# Altium footprint library Pinheader_2.54_2x12.PcbLib: 1 footprints
Each footprint in its own frame and in the unit in brackets; x right, y up, seen from the top. Pads: shape width x height; smd on the part's side, far side on the other; paste and mask are expansions set on the pad; w line width, h text height; cw(c..) or ccw(c..) is an arc to the next point about the centre after c.
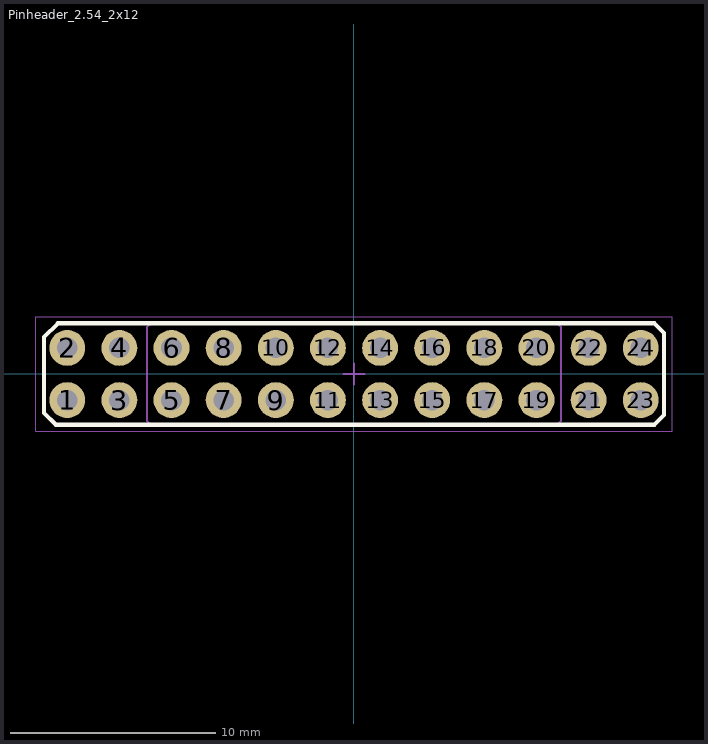
[diagram p0: the footprint, top view; thin cyan lines are the x and y axes]

## Pinheader_2.54_2x12 [mm] "Pinheader, 2.54mm, gerade, 2-reihig"
height 8.7
pads (24):
  round 1.75 hole 1: 1(-13.97,-1.27) 2(-13.97,1.27) 3(-11.43,-1.27) 4(-11.43,1.27) 5(-8.89,-1.27) 6(-8.89,1.27) 7(-6.35,-1.27) 8(-6.35,1.27) 9(-3.81,-1.27) 10(-3.81,1.27) 11(-1.27,-1.27) 12(-1.27,1.27) 13(1.27,-1.27) 14(1.27,1.27) 15(3.81,-1.27) 16(3.81,1.27) 17(6.35,-1.27) 18(6.35,1.27) 19(8.89,-1.27) 20(8.89,1.27) 21(11.43,-1.27) 22(11.43,1.27) 23(13.97,-1.27) 24(13.97,1.27)
Top Overlay:
  lines w0.2: -15.1,-1.9 -14.53,-2.47 14.63,-2.47 15.1,-2 15.1,2 14.63,2.47 -14.43,2.47 -15.1,1.8 -15.1,-1.9
Mechanical 13:
  lines w0.1: -10.09,-2.27 -9.89,-2.47 9.89,-2.47 10.09,-2.27 10.09,2.27 9.89,2.47 -9.89,2.47 -10.09,2.27 -10.09,-2.27
Mechanical 15:
  lines w0.05: -15.5,-2.8 15.5,-2.8 15.5,2.8 -15.5,2.8 -15.5,-2.8
  lines w0.1: -0.5,0 0.5,0 ; 0,-0.5 0,0.5
3D body "stiftleiste_254_gerade_2x2.stp": height 8.74, standoff -2.86, extent 10.16,-2.54 15.24,2.54
3D body "stiftleiste_254_gerade_2x2.stp": height 8.74, standoff -2.86, extent -15.24,-2.54 -10.16,2.54
3D body "stiftleiste_254_gerade_2x8.stp": height 8.74, standoff -2.86, extent -10.16,-2.54 10.16,2.54